# EAGLE library part PCU9656 (library everykey)
24-Channel PWM LED driver (~400Hz), I2C control, open drain outputs. Must be current limited to max 100mA per channel.
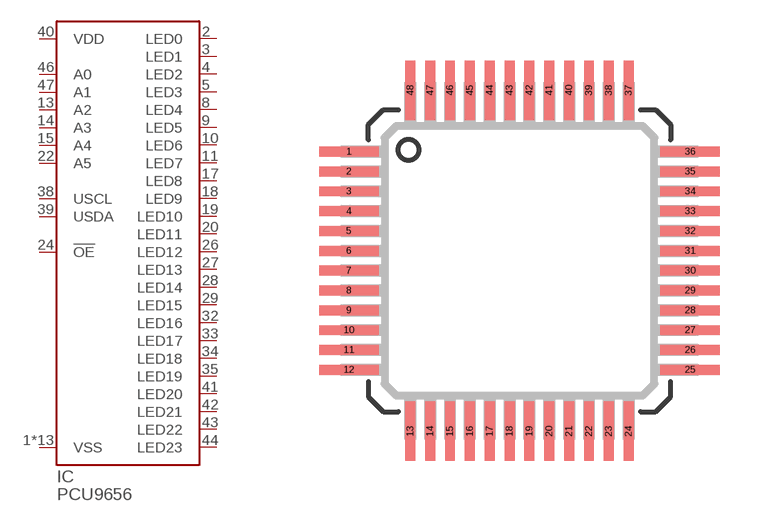
[diagram p97: symbol with the pads of QFP48-0.5; footprint QFP48-0.5]

Designator prefix IC

## PCU9656-LQFP48  [QFP48-0.5]
1  VSS  pwr
2  LED0  oc
3  LED1  oc
4  LED2  oc
5  LED3  oc
6  VSS  pwr
7  VSS  pwr
8  LED4  oc
9  LED5  oc
10  LED6  oc
11  LED7  oc
12  VSS  pwr
13  A2  in
14  A3  in
15  A4  in
16  VSS  pwr
17  LED8  oc
18  LED9  oc
19  LED10  oc
20  LED11  oc
21  VSS  pwr
22  A5  in
24  !OE  in
25  VSS  pwr
26  LED12  oc
27  LED13  oc
28  LED14  oc
29  LED15  oc
30  VSS  pwr
31  VSS  pwr
32  LED16  oc
33  LED17  oc
34  LED18  oc
35  LED19  oc
36  VSS  pwr
37  VSS  pwr
38  USCL  oc
39  USDA  oc
40  VDD  pwr
41  LED20  oc
42  LED21  oc
43  LED22  oc
44  LED23  oc
45  VSS  pwr
46  A0  in
47  A1  in
48  VSS  pwr

## Footprint QFP48-0.5 (pad centres in mm)
QFP, 48 pins, 0.5mm pitch
smd 1.5 x 0.25: 1 -4.3,2.75; 2 -4.3,2.25; 3 -4.3,1.75; 4 -4.3,1.25; 5 -4.3,0.75; 6 -4.3,0.25; 7 -4.3,-0.25; 8 -4.3,-0.75; 9 -4.3,-1.25; 10 -4.3,-1.75; 11 -4.3,-2.25; 12 -4.3,-2.75; 25 4.3,-2.75; 26 4.3,-2.25; 27 4.3,-1.75; 28 4.3,-1.25; 29 4.3,-0.75; 30 4.3,-0.25; 31 4.3,0.25; 32 4.3,0.75; 33 4.3,1.25; 34 4.3,1.75; 35 4.3,2.25; 36 4.3,2.75
smd 0.25 x 1.5: 13 -2.75,-4.3; 14 -2.25,-4.3; 15 -1.75,-4.3; 16 -1.25,-4.3; 17 -0.75,-4.3; 18 -0.25,-4.3; 19 0.25,-4.3; 20 0.75,-4.3; 21 1.25,-4.3; 22 1.75,-4.3; 23 2.25,-4.3; 24 2.75,-4.3; 37 2.75,4.3; 38 2.25,4.3; 39 1.75,4.3; 40 1.25,4.3; 41 0.75,4.3; 42 0.25,4.3; 43 -0.25,4.3; 44 -0.75,4.3; 45 -1.25,4.3; 46 -1.75,4.3; 47 -2.25,4.3; 48 -2.75,4.3